# Altium footprint library 杂项库.PcbLib: 585 footprints (part 14 of 37)
Each footprint in its own frame and in the unit in brackets; x right, y up, seen from the top. Pads: shape width x height; smd on the part's side, far side on the other; paste and mask are expansions set on the pad; w line width, h text height; cw(c..) or ccw(c..) is an arc to the next point about the centre after c.
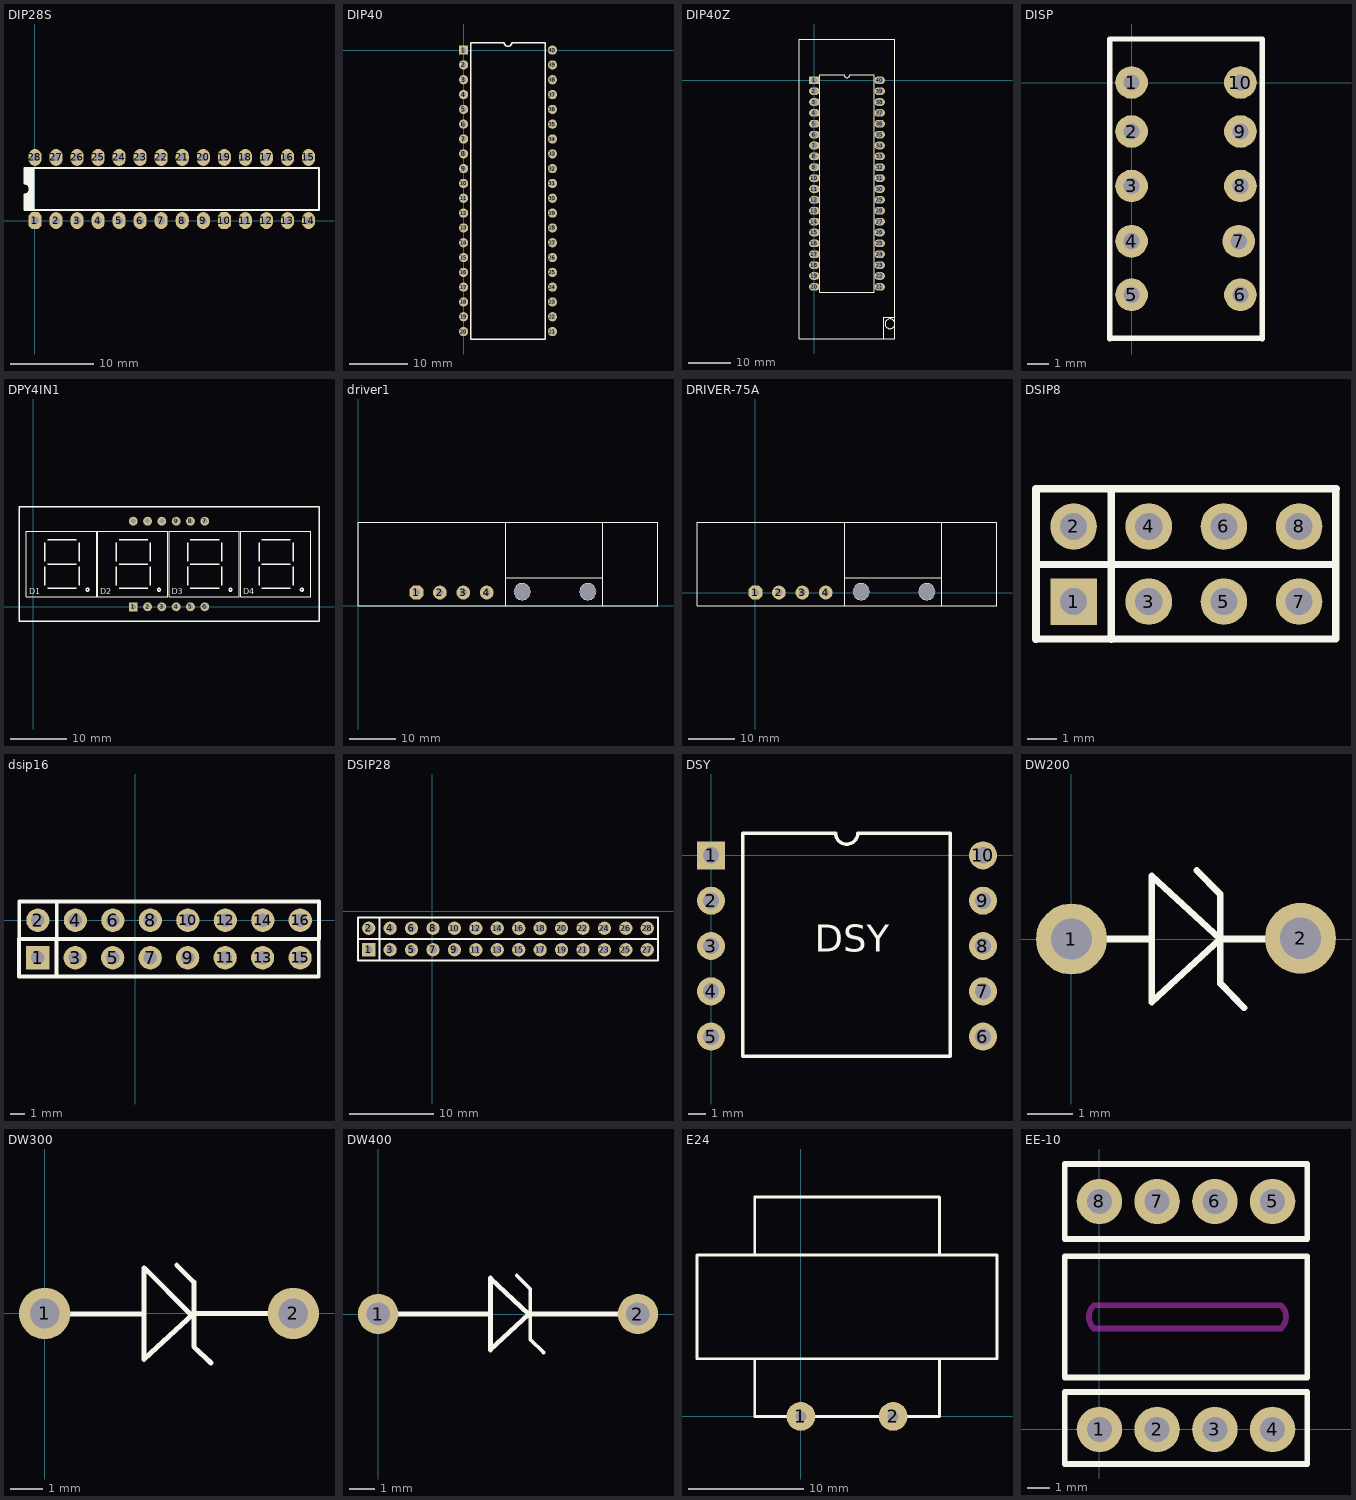
[diagram p13: the footprints below, top view; thin cyan lines are the x and y axes]

## DIP28S [mil]
pads (28):
  oct 62x80 hole 36: 1(0,0) 10(900,0)
  oval 62x80 hole 36: 2(100,0) 3(200,0) 4(300,0) 5(400,0) 6(500,0) 7(600,0) 8(700,0) 9(800,0) 11(1000,0) 12(1100,0) 13(1200,0) 14(1300,0) 15(1300,300) 16(1200,300) 17(1100,300) 18(1000,300) 19(900,300) 20(800,300) 21(700,300) 22(600,300) 23(500,300) 24(400,300) 25(300,300) 26(200,300) 27(100,300) 28(0,300)
Top Overlay:
  region: -22,250 -51,250 -51,178 -22,178
  region: -2,250 -28,250 -28,125 -2,125
  region: -2,125 -51,125 -51,50 -2,50
  lines w8: -51,50 -51,125 ccw(c-51,150) -51,175 -51,250
  lines w10: -50.31,50.13 1350,50 1350,250 -50.31,250.13 ; -40,180 -34,174 -27,174 -27,167 ; -35,125 -28,125 -28,133

## DIP40 [mil]
pads (40):
  rect 62x62 hole 36: 1(0,0)
  round 62 hole 36: 2(0,-100) 3(0,-200) 4(0,-300) 5(0,-400) 6(0,-500) 7(0,-600) 8(0,-700) 9(0,-800) 10(0,-900) 11(0,-1000) 12(0,-1100) 13(0,-1200) 14(0,-1300) 15(0,-1400) 16(0,-1500) 17(0,-1600) 18(0,-1700) 19(0,-1800) 20(0,-1900) 21(600,-1900) 22(600,-1800) 23(600,-1700) 24(600,-1600) 25(600,-1500) 26(600,-1400) 27(600,-1300) 28(600,-1200) 29(600,-1100) 30(600,-1000) 31(600,-900) 32(600,-800) 33(600,-700) 34(600,-600) 35(600,-500) 36(600,-400) 37(600,-300) 38(600,-200) 39(600,-100) 40(600,0)
Top Overlay:
  lines w10: 50,-1950 50,50 275,50 ccw(c300,50) 325,50 550,50 550,-1950 50,-1950

## DIP40Z [mm]
pads (40):
  rect 2.5x1.778 hole 1.5: 1(0,0)
  oval 2.5x1.778 hole 1.5: 2(0,-2.54) 3(0,-5.08) 4(0,-7.62) 5(0,-10.16) 6(0,-12.7) 7(0,-15.24) 8(0,-17.78) 9(0,-20.32) 10(0,-22.86) 11(0,-25.4) 12(0,-27.94) 13(0,-30.48) 14(0,-33.02) 15(0,-35.56) 16(0,-38.1) 17(0,-40.64) 18(0,-43.18) 19(0,-45.72) 20(0,-48.26) 21(15.24,-48.26) 22(15.24,-45.72) 23(15.24,-43.18) 24(15.24,-40.64) 25(15.24,-38.1) 26(15.24,-35.56) 27(15.24,-33.02) 28(15.24,-30.48) 29(15.24,-27.94) 30(15.24,-25.4) 31(15.24,-22.86) 32(15.24,-20.32) 33(15.24,-17.78) 34(15.24,-15.24) 35(15.24,-12.7) 36(15.24,-10.16) 37(15.24,-7.62) 38(15.24,-5.08) 39(15.24,-2.54) 40(15.24,0)
Top Overlay:
  circle w0.254: c17.66,-56.896 r1.136
  lines w0.254: 16.256,-60.452 16.256,-55.372 18.796,-55.372 ; -3.556,-60.452 18.796,-60.452 18.796,9.652 -3.556,9.652 -3.556,-60.452 ; 1.27,-49.53 13.97,-49.53 13.97,1.27 8.255,1.27 cw(c7.62,1.27) 6.985,1.27 1.27,1.27 1.27,-49.53

## DISP [mil]
pads (10):
  round 60 hole 30: 1(0,0) 2(0,-90) 3(0,-190) 4(0,-291.57) 5(0,-390) 6(200,-390) 7(196.85,-291.57) 8(200,-190) 9(200,-90) 10(200,0)
Top Overlay:
  lines w10: -40,-471.18 -40,80 240,80 240,-471.18 ; -40,-470 240,-470

## DPY4IN1 [mil]
pads (12):
  rect 62x62 hole 36: 1(700,0)
  round 62 hole 36: 2(800,0) 3(900,0) 4(1000,0) 5(1100,0) 6(1200,0) 7(1200,600) 8(1100,600) 9(1000,600) 10(900,600) 11(800,600) 12(700,600)
Top Overlay:
  circle w10: c1880,120 r10
  circle w10: c1380,120 r10
  circle w10: c880,120 r10
  circle w10: c380,120 r10
  lines w7.87: -49.21,70.28 442.91,70.28 442.91,528.15 -49.21,528.15 -49.21,323.82 -49.21,70.28 ; 450.79,70.28 942.91,70.28 942.91,528.15 450.79,528.15 450.79,323.82 450.79,70.28 ; 950.79,70.28 1442.91,70.28 1442.91,528.15 950.79,528.15 950.79,323.82 950.79,70.28 ; 1450.79,70.28 1942.91,70.28 1942.91,528.15 1450.79,528.15 1450.79,323.82 1450.79,70.28
  lines w10: 80,150 80,280 ; 80,320 80,450 ; 100,130 300,130 ; 100,300 300,300 ; 100,470 300,470 ; 320,150 320,280 ; 320,320 320,450 ; 580,150 580,280 ; 580,320 580,450 ; 600,130 800,130 ; 600,300 800,300 ; 600,470 800,470 ; 820,150 820,280 ; 820,320 820,450 ; 1080,150 1080,280 ; 1080,320 1080,450 ; 1100,130 1300,130 ; 1100,300 1300,300 ; 1100,470 1300,470 ; 1320,150 1320,280 ; 1320,320 1320,450 ; 1580,150 1580,280 ; 1580,320 1580,450 ; 1600,130 1800,130 ; 1600,300 1800,300 ; 1600,470 1800,470 ; 1820,150 1820,280 ; 1820,320 1820,450 ; -100,-100 -100,700 2000,700 2000,-100 -100,-100
  text "D4" at 1470,90 h40
  text "D3" at 970,90 h40
  text "D2" at 470,90 h40
  text "D1" at -30,90 h40

## driver1 [mm]
pads (6):
  oct 3x3 hole 1.5: 1(12.66,2.8)
  round 3 hole 1.5: 2(17.74,2.8) 3(22.82,2.8) 4(27.9,2.8)
  round 1.524 hole 3.5: 5(35.6,3) 6(49.8,3)
Top Overlay:
  circle w0.254: c49.821,3 r1.75
  circle w0.254: c35.55,3 r1.75
  lines w0.254: 32,0 32,6 ; 32,18 32,6 ; 53,0 53,6 ; 53,18 53,6 ; 32,6 53,6 ; 0,0 65,0 65,18 0,18 0,0

## DRIVER-75A [mm]
pads (6):
  oct 3x3 hole 1.5: 1(0,0)
  round 3 hole 1.5: 2(5.08,0) 3(10.16,0) 4(15.24,0)
  round 1.524 hole 3.5: 5(22.94,0.2) 6(37.14,0.2)
Top Overlay:
  circle w0.254: c37.161,0.2 r1.75
  circle w0.254: c22.89,0.2 r1.75
  lines w0.254: 19.34,-2.8 19.34,3.2 ; 19.34,15.2 19.34,3.2 ; 40.34,-2.8 40.34,3.2 ; 40.34,15.2 40.34,3.2 ; 19.34,3.2 40.34,3.2 ; -12.66,-2.8 52.34,-2.8 52.34,15.2 -12.66,15.2 -12.66,-2.8

## DSIP8 [mil]
pads (8):
  rect 62x62 hole 36: 1(156.69,-298.27)
  round 62 hole 36: 2(156.69,-198.27) 3(256.69,-298.27) 4(256.69,-198.27) 5(356.69,-298.27) 6(356.69,-198.27) 7(456.69,-298.27) 8(456.69,-198.27)
Top Overlay:
  lines w10: 206.69,-348.27 206.69,-248.27 206.69,-148.27 ; 505.51,-247.87 505.51,-347.87 106.69,-348.27 106.69,-248.27 ; 505.51,-149.45 505.51,-249.45 ; 505.83,-148.11 106.69,-148.27 106.69,-248.27 ; 106.69,-248.27 505.51,-249.45 ; 106.69,-248.27 505.51,-249.45

## dsip16 [mil]
pads (16):
  rect 62x62 hole 36: 1(-260.71,-99.61)
  round 62 hole 36: 2(-260.28,0.43) 3(-160.71,-99.61) 4(-160.28,0.43) 5(-60.71,-99.61) 6(-60.28,0.43) 7(39.29,-99.61) 8(39.72,0.43) 9(139.29,-99.61) 10(139.72,0.43) 11(239.29,-99.61) 12(239.72,0.43) 13(339.29,-99.61) 14(339.72,0.43) 15(439.29,-99.61) 16(439.72,0.43)
Top Overlay:
  lines w10: -210.71,-149.61 -210.71,-49.61 ; -210.28,-49.57 -210.28,50.43 ; -310.71,-149.61 489.29,-149.61 489.29,-49.61 -310.71,-49.61 -310.71,-149.61 ; -310.28,-49.57 489.72,-49.57 489.72,50.43 -310.28,50.43 -310.28,-49.57

## DSIP28 [mil]
pads (28):
  rect 62x62 hole 36: 1(-297.01,-179.72)
  round 62 hole 36: 2(-297.01,-79.72) 3(-197.01,-179.72) 4(-197.01,-79.72) 5(-97.01,-179.72) 6(-97.01,-79.72) 7(2.99,-179.72) 8(2.99,-79.72) 9(102.99,-179.72) 10(102.99,-79.72) 11(202.99,-179.72) 12(202.99,-79.72) 13(302.99,-179.72) 14(302.99,-79.72) 15(402.99,-179.72) 16(402.99,-79.72) 17(502.99,-179.72) 18(502.99,-79.72) 19(602.99,-179.72) 20(602.99,-79.72) 21(702.99,-179.72) 22(702.99,-79.72) 23(802.99,-179.72) 24(802.99,-79.72) 25(902.99,-179.72) 26(902.99,-79.72) 27(1002.99,-179.72) 28(1002.99,-79.72)
Top Overlay:
  lines w10: -247.01,-229.72 -247.01,-129.72 -247.01,-29.72 ; -347.01,-129.72 452.99,-129.72 ; -347.01,-129.72 -347.01,-29.72 452.99,-29.72 1052.99,-29.72 1052.99,-129.72 ; -347.01,-129.72 452.99,-129.72 ; -347.01,-129.72 -347.01,-229.72 452.99,-229.72 1052.99,-229.72 1052.99,-129.72 ; 452.99,-129.72 1052.99,-129.72 ; 452.99,-129.72 1052.99,-129.72

## DSY [mil]
pads (10):
  rect 62x62 hole 36: 1(0,0)
  round 62 hole 36: 2(0,-100) 3(0,-200) 4(0,-300) 5(0,-400) 6(600,-400) 7(600,-300) 8(600,-200) 9(600,-100) 10(600,0)
Top Overlay:
  lines w7.87: 70.28,-442.91 70.28,49.21 274.61,49.21 ccw(c299.21,49.21) 323.82,49.21 528.15,49.21 528.15,-442.91 70.28,-442.91
  text "DSY" at 228.35,-212.6 h60

## DW200 [mil]
pads (2):
  round 62 hole 36: 1(0,0) 2(200,0.63)
Top Overlay:
  lines w5.91: 0,0 70,0 ; 70,-55.12 70,0.63 ; 109.33,60 130,39 130,-39 150.67,-60 ; 200,0 130,0 ; 130,0 70,-55 70,55 130,0

## DW300 [mil]
pads (2):
  round 62 hole 36: 1(0,0) 2(300,0)
Top Overlay:
  lines w1.97: 175,0 180,0
  lines w5.91: 0,-0.63 120,-0.63 ; 120,-55.75 120,0 ; 159.33,58.42 180,37.76 180,-40 200.67,-59.69 ; 175,0 120,55 120,-55 180,0 300,0

## DW400 [mil]
pads (2):
  round 62 hole 36: 1(0,0) 2(400,0)
Top Overlay:
  lines w5.91: 213.58,59.05 234.25,38.39 234.25,-39.37 254.92,-59.05
  lines w7.87: 0,0 170.03,0 ; 231.84,0 400,0 ; 172.79,-55.12 231.84,-0.44 172.79,55.12 172.79,-55.12

## E24 [mm]
pads (2):
  round 2.5 hole 0.94: 1(0,0) 2(8,0)
Top Overlay:
  lines w0.25: -9,5 -9,14 ; -9,5 -4,5 -4,0 12,0 12,5 17,5 ; -9,5 -9,14 ; -9,5 17,5 ; -9,14 -4,14 -4,19 12,19 12,14 17,14 ; -9,14 17,14 ; 17,5 17,14 ; 17,5 17,14

## EE-10 [mm]
pads (8):
  round 2 hole 1.1: 1(0,0) 2(2.54,0) 3(5.08,0) 4(7.62,0) 5(7.62,10.033) 6(5.08,10.033) 7(2.54,10.033) 8(0,10.033)
Top Overlay:
  lines w0.254: -1.524,0.889 -1.524,1.651 9.144,1.651 9.144,0.889 ; -1.524,1.143 -1.524,-1.524 9.144,-1.524 9.144,1.143 ; -1.524,2.286 -1.524,7.62 9.144,7.62 9.144,2.286 -1.524,2.286 ; -1.524,8.382 9.144,8.382 9.144,11.684 -1.524,11.684 -1.524,8.382
Keep-Out Layer:
  lines w0.254: -0.254,4.445 cw(c0.254,4.953) -0.254,5.461 8.001,5.461 cw(c7.493,4.953) 8.001,4.445 -0.254,4.445